# Altium schematic symbol library NetTie.SchLib: 1 symbol
Pins are listed as number, name and electrical type; pins without a type are passive.

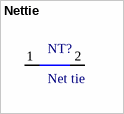
[diagram p0: symbol Nettie]

## Nettie
designator NT?, comment Net tie  (net tie, no BOM)
footprint Nettie
pins: 1, 2